# Altium footprint library Ceramic DFP.PcbLib: 44 footprints (part 1 of 3)
Each footprint in its own frame and in the unit in brackets; x right, y up, seen from the top. Pads: shape width x height; smd on the part's side, far side on the other; paste and mask are expansions set on the pad; w line width, h text height; cw(c..) or ccw(c..) is an arc to the next point about the centre after c.
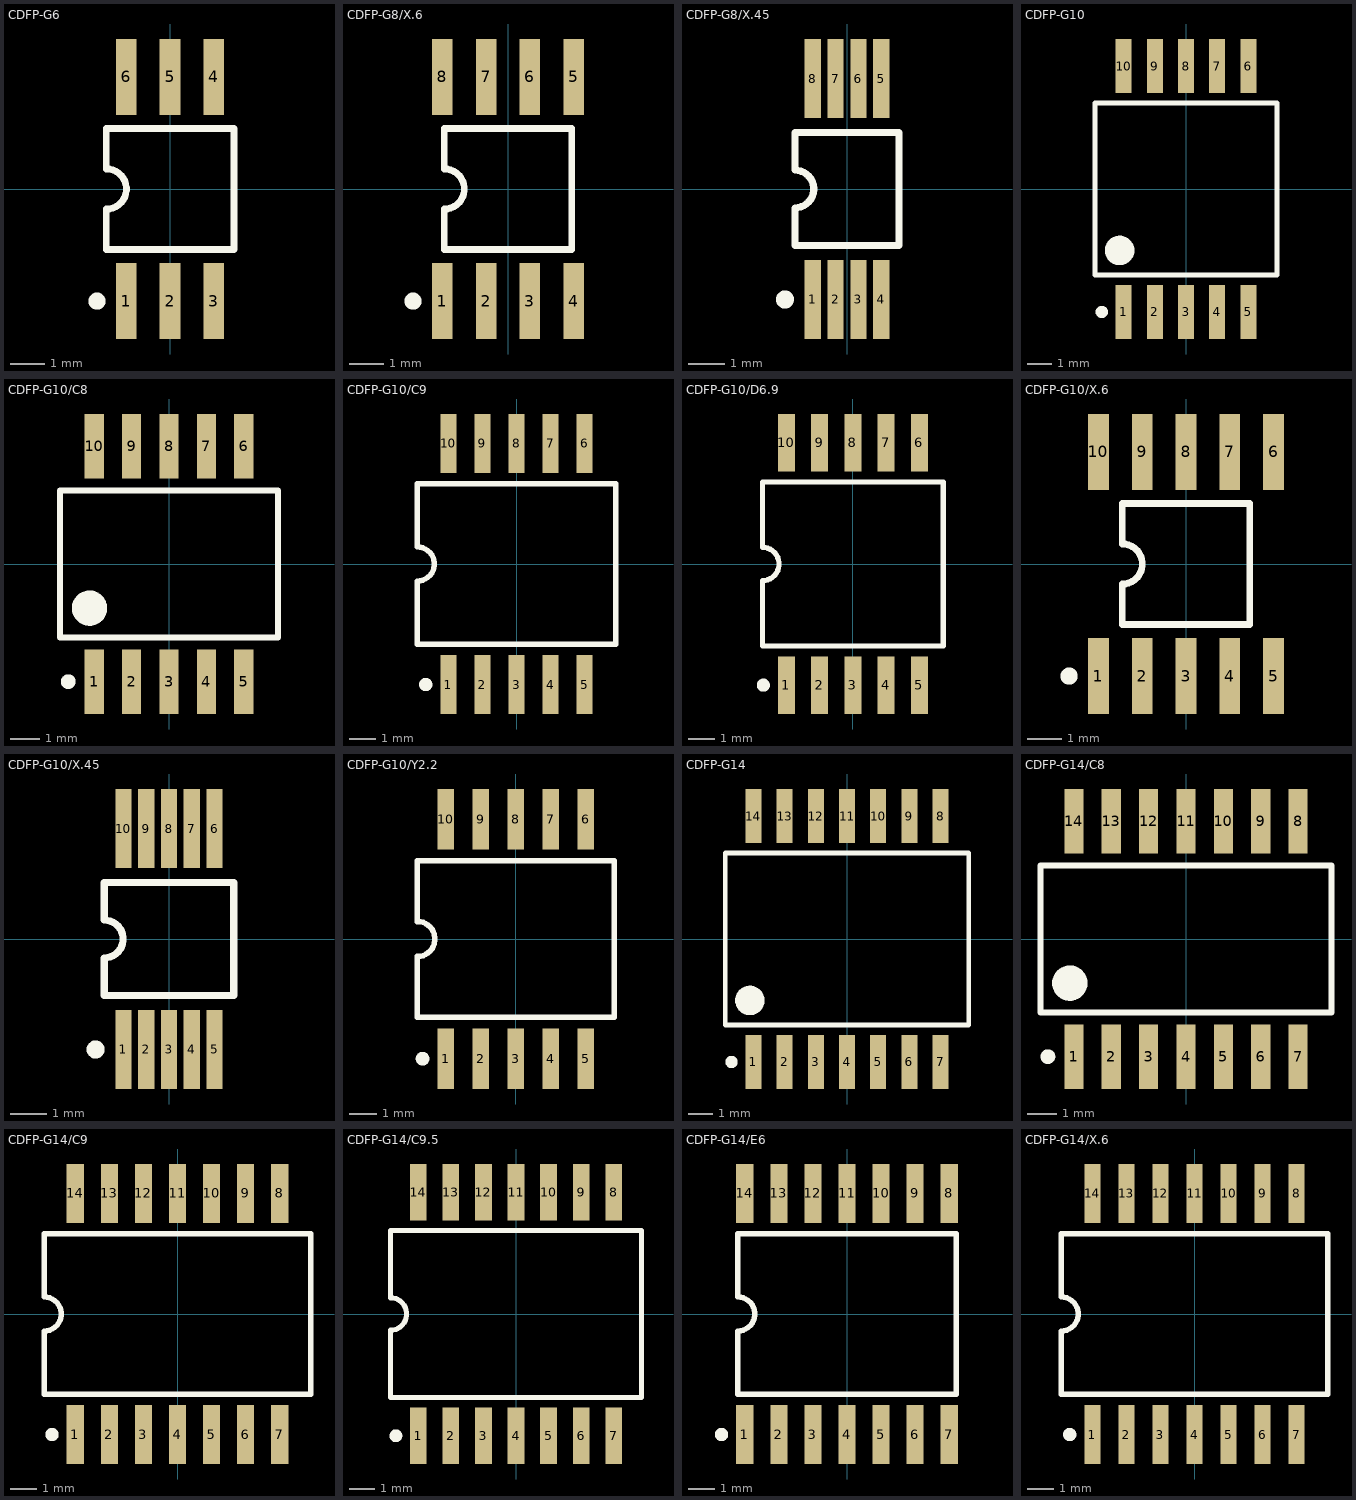
[diagram p0: the footprints below, top view; thin cyan lines are the x and y axes]

## CDFP-G6 [mm] "DFP; 6 Leads; Body 3.7 x 3.6 mm (LxW max); Pitch 1.27 mm"
height 1.8
pads (6):
  rect 0.6x2.2 smd: 1(-1.27,-3.25) 2(0,-3.25) 3(1.27,-3.25) 4(1.27,3.25) 5(0,3.25) 6(-1.27,3.25)
Top Overlay:
  circle w0.25: c-2.12,-3.25 r0.125
  lines w0.2: -1.85,-1.75 -1.85,-0.583 ccw(c-1.85,0) -1.85,0.583 -1.85,1.75 1.85,1.75 1.85,-1.75 -1.85,-1.75

## CDFP-G8/X.6 [mm] "DFP; 8 Leads; Body 3.7 x 3.6 mm (LxW max); Pitch 1.27 mm"
height 1.8
pads (8):
  rect 0.6x2.2 smd: 1(-1.905,-3.25) 2(-0.635,-3.25) 3(0.635,-3.25) 4(1.905,-3.25) 5(1.905,3.25) 6(0.635,3.25) 7(-0.635,3.25) 8(-1.905,3.25)
Top Overlay:
  circle w0.25: c-2.755,-3.25 r0.125
  lines w0.2: -1.85,-1.75 -1.85,-0.583 ccw(c-1.85,0) -1.85,0.583 -1.85,1.75 1.85,1.75 1.85,-1.75 -1.85,-1.75

## CDFP-G8/X.45 [mm] "DFP; 8 Leads; Body 2.9 x 3.3 mm (LxW max); Pitch 0.635 mm"
height 1.2
pads (8):
  rect 0.45x2.2 smd: 1(-0.953,-3.075) 2(-0.318,-3.075) 3(0.318,-3.075) 4(0.953,-3.075) 5(0.953,3.075) 6(0.318,3.075) 7(-0.318,3.075) 8(-0.953,3.075)
Top Overlay:
  circle w0.25: c-1.727,-3.075 r0.125
  lines w0.2: -1.45,-1.575 -1.45,-0.525 ccw(c-1.45,0) -1.45,0.525 -1.45,1.575 1.45,1.575 1.45,-1.575 -1.45,-1.575

## CDFP-G10 [mm] "DFP; 10 Leads; Body 7.4 x 7.6 mm (LxW max); Pitch 1.27 mm"
height 2.5
pads (10):
  rect 0.65x2.2 smd: 1(-2.54,-5) 2(-1.27,-5) 3(0,-5) 4(1.27,-5) 5(2.54,-5) 6(2.54,5) 7(1.27,5) 8(0,5) 9(-1.27,5) 10(-2.54,5)
Top Overlay:
  circle w0.25: c-3.425,-5 r0.125
  circle w0.6: c-2.7,-2.5 r0.3
  lines w0.2: -3.7,-3.5 -3.7,-0.635 -3.7,3.5 3.7,3.5 3.7,-3.5 -3.7,-3.5

## CDFP-G10/C8 [mm] "DFP; 10 Leads; Body 7.4 x 5.1 mm (LxW max); Pitch 1.27 mm"
height 2.5
pads (10):
  rect 0.65x2.2 smd: 1(-2.54,-4) 2(-1.27,-4) 3(0,-4) 4(1.27,-4) 5(2.54,-4) 6(2.54,4) 7(1.27,4) 8(0,4) 9(-1.27,4) 10(-2.54,4)
Top Overlay:
  circle w0.6: c-2.7,-1.5 r0.3
  circle w0.25: c-3.425,-4 r0.125
  lines w0.2: -3.7,-2.5 3.7,-2.5 3.7,2.5 -3.7,2.5 -3.7,-0.635 -3.7,-2.5

## CDFP-G10/C9 [mm] "DFP; 10 Leads; Body 7.4 x 6.6 mm (LxW max); Pitch 1.27 mm"
height 2.16
pads (10):
  rect 0.6x2.2 smd: 1(-2.54,-4.5) 2(-1.27,-4.5) 3(0,-4.5) 4(1.27,-4.5) 5(2.54,-4.5) 6(2.54,4.5) 7(1.27,4.5) 8(0,4.5) 9(-1.27,4.5) 10(-2.54,4.5)
Top Overlay:
  circle w0.25: c-3.39,-4.5 r0.125
  lines w0.2: -3.7,-3 -3.7,-0.635 ccw(c-3.7,0) -3.7,0.635 -3.7,3 3.7,3 3.7,-3 -3.7,-3

## CDFP-G10/D6.9 [mm] "DFP; 10 Leads; Body 6.9 x 6.9 mm (LxW max); Pitch 1.27 mm"
height 2.04
pads (10):
  rect 0.65x2.2 smd: 1(-2.54,-4.625) 2(-1.27,-4.625) 3(0,-4.625) 4(1.27,-4.625) 5(2.54,-4.625) 6(2.54,4.625) 7(1.27,4.625) 8(0,4.625) 9(-1.27,4.625) 10(-2.54,4.625)
Top Overlay:
  circle w0.25: c-3.415,-4.625 r0.125
  lines w0.2: -3.45,-3.125 -3.45,-0.635 ccw(c-3.45,0) -3.45,0.635 -3.45,3.125 3.45,3.125 3.45,-3.125 -3.45,-3.125

## CDFP-G10/X.6 [mm] "DFP; 10 Leads; Body 3.7 x 3.6 mm (LxW max); Pitch 1.27 mm"
height 1.8
pads (10):
  rect 0.6x2.2 smd: 1(-2.54,-3.25) 2(-1.27,-3.25) 3(0,-3.25) 4(1.27,-3.25) 5(2.54,-3.25) 6(2.54,3.25) 7(1.27,3.25) 8(0,3.25) 9(-1.27,3.25) 10(-2.54,3.25)
Top Overlay:
  circle w0.25: c-3.39,-3.25 r0.125
  lines w0.2: -1.85,-1.75 1.85,-1.75 1.85,1.75 -1.85,1.75 -1.85,0.583 cw(c-1.85,0) -1.85,-0.583 -1.85,-1.75

## CDFP-G10/X.45 [mm] "DFP; 10 Leads; Body 3.6 x 3.3 mm (LxW max); Pitch 0.635 mm"
height 1.2
pads (10):
  rect 0.45x2.2 smd: 1(-1.27,-3.075) 2(-0.635,-3.075) 3(0,-3.075) 4(0.635,-3.075) 5(1.27,-3.075) 6(1.27,3.075) 7(0.635,3.075) 8(0,3.075) 9(-0.635,3.075) 10(-1.27,3.075)
Top Overlay:
  circle w0.25: c-2.045,-3.075 r0.125
  lines w0.2: -1.8,-1.575 1.8,-1.575 1.8,1.575 -1.8,1.575 -1.8,0.525 cw(c-1.8,0) -1.8,-0.525 -1.8,-1.575

## CDFP-G10/Y2.2 [mm] "DFP; 10 Leads; Body 7.1 x 6.4 mm (LxW max); Pitch 1.27 mm"
height 2.03
pads (10):
  rect 0.6x2.2 smd: 1(-2.54,-4.35) 2(-1.27,-4.35) 3(0,-4.35) 4(1.27,-4.35) 5(2.54,-4.35) 6(2.54,4.35) 7(1.27,4.35) 8(0,4.35) 9(-1.27,4.35) 10(-2.54,4.35)
Top Overlay:
  circle w0.25: c-3.39,-4.35 r0.125
  lines w0.2: -3.575,-2.85 -3.575,-0.635 ccw(c-3.575,0) -3.575,0.635 -3.575,2.85 3.575,2.85 3.575,-2.85 -3.575,-2.85

## CDFP-G14 [mm] "DFP; 14 Leads; Body 9.9 x 7.6 mm (LxW max); Pitch 1.27 mm"
height 2.5
pads (14):
  rect 0.65x2.2 smd: 1(-3.81,-5) 2(-2.54,-5) 3(-1.27,-5) 4(0,-5) 5(1.27,-5) 6(2.54,-5) 7(3.81,-5) 8(3.81,5) 9(2.54,5) 10(1.27,5) 11(0,5) 12(-1.27,5) 13(-2.54,5) 14(-3.81,5)
Top Overlay:
  circle w0.6: c-3.95,-2.5 r0.3
  circle w0.25: c-4.695,-5 r0.125
  lines w0.2: -4.95,-3.5 4.95,-3.5 4.95,3.5 -4.95,3.5 -4.95,-0.635 -4.95,-3.5

## CDFP-G14/C8 [mm] "DFP; 14 Leads; Body 9.9 x 5.1 mm (LxW max); Pitch 1.27 mm"
height 2.5
pads (14):
  rect 0.65x2.2 smd: 1(-3.81,-4) 2(-2.54,-4) 3(-1.27,-4) 4(0,-4) 5(1.27,-4) 6(2.54,-4) 7(3.81,-4) 8(3.81,4) 9(2.54,4) 10(1.27,4) 11(0,4) 12(-1.27,4) 13(-2.54,4) 14(-3.81,4)
Top Overlay:
  circle w0.25: c-4.695,-4 r0.125
  circle w0.6: c-3.95,-1.5 r0.3
  lines w0.2: -4.95,-2.5 -4.95,-0.635 -4.95,2.5 4.95,2.5 4.95,-2.5 -4.95,-2.5

## CDFP-G14/C9 [mm] "DFP; 14 Leads; Body 9.9 x 6.6 mm (LxW max); Pitch 1.27 mm"
height 2.03
pads (14):
  rect 0.65x2.2 smd: 1(-3.81,-4.5) 2(-2.54,-4.5) 3(-1.27,-4.5) 4(0,-4.5) 5(1.27,-4.5) 6(2.54,-4.5) 7(3.81,-4.5) 8(3.81,4.5) 9(2.54,4.5) 10(1.27,4.5) 11(0,4.5) 12(-1.27,4.5) 13(-2.54,4.5) 14(-3.81,4.5)
Top Overlay:
  circle w0.25: c-4.685,-4.5 r0.125
  lines w0.2: -4.975,-3 -4.975,-0.635 ccw(c-4.975,0) -4.975,0.635 -4.975,3 4.975,3 4.975,-3 -4.975,-3

## CDFP-G14/C9.5 [mm] "DFP; 14 Leads; Body 9.8 x 7.1 mm (LxW max); Pitch 1.27 mm"
height 2.03
pads (14):
  rect 0.65x2.2 smd: 1(-3.81,-4.75) 2(-2.54,-4.75) 3(-1.27,-4.75) 4(0,-4.75) 5(1.27,-4.75) 6(2.54,-4.75) 7(3.81,-4.75) 8(3.81,4.75) 9(2.54,4.75) 10(1.27,4.75) 11(0,4.75) 12(-1.27,4.75) 13(-2.54,4.75) 14(-3.81,4.75)
Top Overlay:
  circle w0.25: c-4.685,-4.75 r0.125
  lines w0.2: -4.9,-3.25 4.9,-3.25 4.9,3.25 -4.9,3.25 -4.9,0.635 cw(c-4.9,0) -4.9,-0.635 -4.9,-3.25

## CDFP-G14/E6 [mm] "DFP; 14 Leads; Body 8.1 x 6.6 mm (LxW max); Pitch 1.27 mm"
height 1.66
pads (14):
  rect 0.65x2.2 smd: 1(-3.81,-4.5) 2(-2.54,-4.5) 3(-1.27,-4.5) 4(0,-4.5) 5(1.27,-4.5) 6(2.54,-4.5) 7(3.81,-4.5) 8(3.81,4.5) 9(2.54,4.5) 10(1.27,4.5) 11(0,4.5) 12(-1.27,4.5) 13(-2.54,4.5) 14(-3.81,4.5)
Top Overlay:
  circle w0.25: c-4.685,-4.5 r0.125
  lines w0.2: -4.075,-3 4.075,-3 4.075,3 -4.075,3 -4.075,0.635 cw(c-4.075,0) -4.075,-0.635 -4.075,-3

## CDFP-G14/X.6 [mm] "DFP; 14 Leads; Body 9.9 x 6.6 mm (LxW max); Pitch 1.27 mm"
height 2.93
pads (14):
  rect 0.6x2.2 smd: 1(-3.81,-4.5) 2(-2.54,-4.5) 3(-1.27,-4.5) 4(0,-4.5) 5(1.27,-4.5) 6(2.54,-4.5) 7(3.81,-4.5) 8(3.81,4.5) 9(2.54,4.5) 10(1.27,4.5) 11(0,4.5) 12(-1.27,4.5) 13(-2.54,4.5) 14(-3.81,4.5)
Top Overlay:
  circle w0.25: c-4.66,-4.5 r0.125
  lines w0.2: -4.975,-3 4.975,-3 4.975,3 -4.975,3 -4.975,0.635 cw(c-4.975,0) -4.975,-0.635 -4.975,-3